# Altium footprint library TO254P460X1010X1720-3P.PcbLib: 1 footprints
Each footprint in its own frame and in the unit in brackets; x right, y up, seen from the top. Pads: shape width x height; smd on the part's side, far side on the other; paste and mask are expansions set on the pad; w line width, h text height; cw(c..) or ccw(c..) is an arc to the next point about the centre after c.
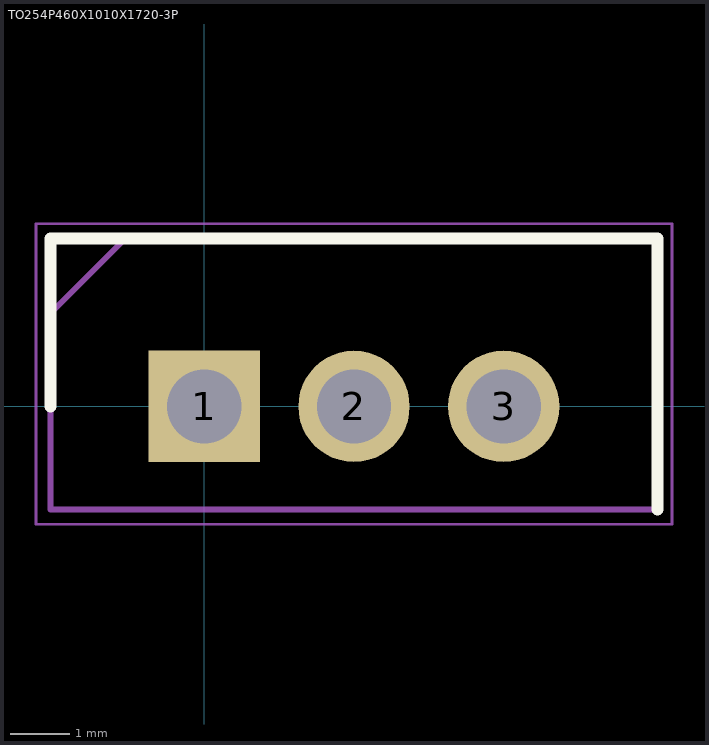
[diagram p0: the footprint, top view; thin cyan lines are the x and y axes]

## TO254P460X1010X1720-3P [mm]
pads (3):
  rect 1.89x1.89 / inner round 1.89 / far side rect 1.89x1.89 hole 1.26: 1(0,0)
  round 1.89 hole 1.26: 2(2.54,0) 3(5.08,0)
Top Overlay:
  lines w0.2: -2.61,0 -2.61,2.85 7.69,2.85 7.69,-1.75
Mechanical 15:
  lines w0.1: -2.61,1.58 -1.34,2.85 ; -2.61,-1.75 7.69,-1.75 7.69,2.85 -2.61,2.85 -2.61,-1.75
Mechanical 20:
  lines w0.05: -2.86,-2 7.94,-2 7.94,3.1 -2.86,3.1 -2.86,-2